# Altium footprint library sot223_plasticPackage.PcbLib: 1 footprints
Each footprint in its own frame and in the unit in brackets; x right, y up, seen from the top. Pads: shape width x height; smd on the part's side, far side on the other; paste and mask are expansions set on the pad; w line width, h text height; cw(c..) or ccw(c..) is an arc to the next point about the centre after c.
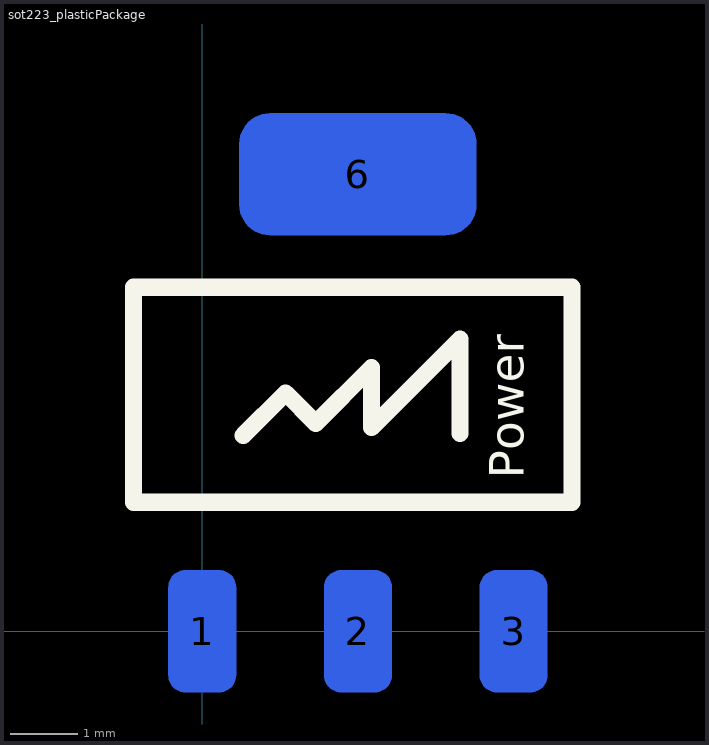
[diagram p0: the footprint, top view; thin cyan lines are the x and y axes]

## sot223_plasticPackage [mm]
pads (4):
  rrect50% 1x1.8 smd far side: 1(0,0) 2(2.3,0) 3(4.6,0)
  rrect50% 3.5x1.8 smd far side: 6(2.3,6.75)
Top Overlay:
  lines w0.254: 0.607,2.893 1.232,3.518 1.676,3.073 2.5,3.897 2.5,3.008 3.81,4.318 3.81,2.921 ; -1.016,1.905 5.461,1.905 5.461,5.08 -1.016,5.08 -1.016,1.905
  text "Power" at 4.75,2.25 h0.51
3D body: height 1.49, standoff -0.38, extent -1.039,-0.071 5.461,6.929